# Altium footprint library WE-CMDC.PcbLib: 4 footprints
Each footprint in its own frame and in the unit in brackets; x right, y up, seen from the top. Pads: shape width x height; smd on the part's side, far side on the other; paste and mask are expansions set on the pad; w line width, h text height; cw(c..) or ccw(c..) is an arc to the next point about the centre after c.
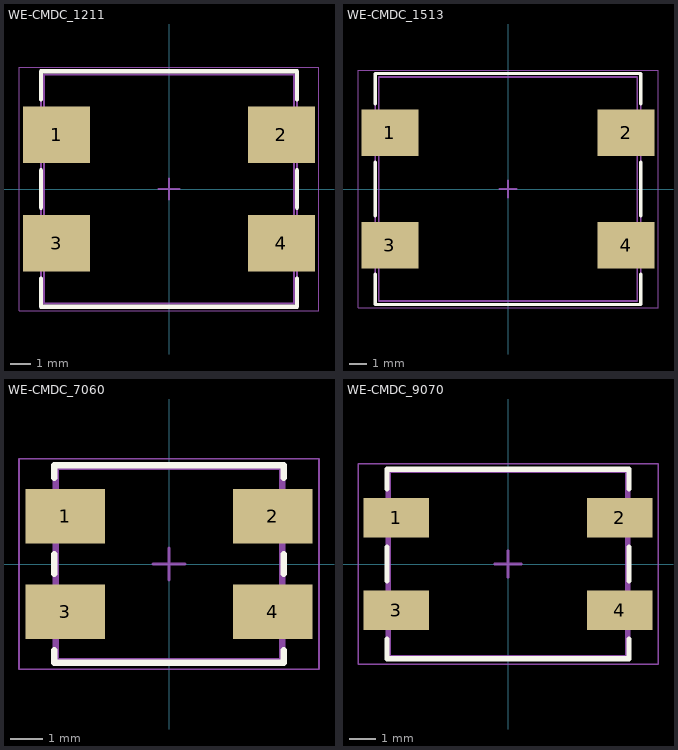
[diagram p0: the footprints below, top view; thin cyan lines are the x and y axes]

## WE-CMDC_1211 [mm] "Common Mode Data  Line Filter, size 1211, body 12 x 11 mm"
height 6
pads (4):
  rect 3.2x2.7 smd: 1(-5.4,2.6) 2(5.4,2.6) 3(-5.4,-2.6) 4(5.4,-2.6)
Top Overlay:
  lines w0.2: -6.15,-4.3 -6.15,-5.65 6.15,-5.65 6.15,-4.3 ; -6.15,-0.9 -6.15,0.9 ; -6.15,4.3 -6.15,5.65 6.15,5.65 6.15,4.3 ; 6.15,-0.9 6.15,0.9
Top Assembly:
  lines w0.1: -6.15,-5.65 6.15,-5.65 6.15,5.65 -6.15,5.65 -6.15,-5.65
Top Designator:
  text ".Designator" at -3.647,-0.357 h1
Top 3D Body:
  lines w0.1: -6,-5.5 -6,5.5 6,5.5 6,-5.5 -6,-5.5
Top Courtyard:
  lines w0.05: -7.2,-5.85 -7.2,5.85 7.2,5.85 7.2,-5.85 -7.2,-5.85
Top Component Center:
  lines w0.1: -0.5,0 0.5,0 ; 0,-0.5 0,0.5
3D body "744237xxx.stp": height 4.95, standoff 0.05, extent -6.15,-5.5 6.15,5.5

## WE-CMDC_1513 [mm] "Common Mode Data  Line Filter, size 1513, body 15.00 x 13.00 mm"
height 6
pads (4):
  rect 3.3x2.7 smd: 1(-6.85,3.25) 2(6.85,3.25) 3(-6.85,-3.25) 4(6.85,-3.25)
Top Overlay:
  lines w0.2: -7.7,-4.95 -7.7,-6.7 7.7,-6.7 7.7,-4.95 ; -7.7,-1.55 -7.7,1.55 ; -7.7,4.95 -7.7,6.7 7.7,6.7 7.7,4.95 ; 7.7,-1.55 7.7,1.55
Top Assembly:
  lines w0.1: -7.7,-6.7 7.7,-6.7 7.7,6.7 -7.7,6.7 -7.7,-6.7
Top Designator:
  text ".Designator" at -3.647,-0.357 h1
Top 3D Body:
  lines w0.1: -7.5,-6.5 7.5,-6.5 7.5,6.5 -7.5,6.5 -7.5,-6.5
Top Courtyard:
  lines w0.05: -8.7,-6.9 8.7,-6.9 8.7,6.9 -8.7,6.9 -8.7,-6.9
Top Component Center:
  lines w0.1: -0.5,0 0.5,0 ; 0,-0.5 0,0.5
3D body "1513.stp": height 6.05, standoff 0.05, extent -7.7,-6.5 7.7,6.5

## WE-CMDC_7060 [mm] "Common Mode Data  Line Filter, size 7060, body 7.00 x 6.00 mm"
height 3.5
pads (4):
  rect 2.5x1.7 smd: 1(-3.25,1.5) 2(3.25,1.5) 3(-3.25,-1.5) 4(3.25,-1.5)
Top Overlay:
  lines w0.2: -3.6,-2.7 -3.6,-3.1 3.6,-3.1 3.6,-2.7 ; -3.6,-0.3 -3.6,0.3 ; -3.6,2.7 -3.6,3.1 3.6,3.1 3.6,2.7 ; 3.6,-0.3 3.6,0.3
Top Assembly:
  lines w0.1: -3.6,-3.1 3.6,-3.1 3.6,3.1 -3.6,3.1 -3.6,-3.1
Top Designator:
  text ".Designator" at -3.647,-0.357 h1
Top 3D Body:
  lines w0.1: -3.5,-3 3.5,-3 3.5,3 -3.5,3 -3.5,-3
Top Courtyard:
  lines w0.05: -4.7,-3.3 4.7,-3.3 4.7,3.3 -4.7,3.3 -4.7,-3.3
Top Component Center:
  lines w0.1: -0.5,0 0.5,0 ; 0,-0.5 0,0.5
3D body "7060_.stp": height 3.08, standoff 0.04, extent -3.523,-2.983 3.524,2.983

## WE-CMDC_9070 [mm] "Common Mode Data  Line Filter, size 9070, body 9.00 x 7.00 mm"
height 4.5
pads (4):
  rect 2.5x1.5 smd: 1(-4.25,1.75) 2(4.25,1.75) 3(-4.25,-1.75) 4(4.25,-1.75)
Top Overlay:
  lines w0.2: -4.6,-2.85 -4.6,-3.6 4.6,-3.6 4.6,-2.85 ; -4.6,-0.65 -4.6,0.65 ; -4.6,2.85 -4.6,3.6 4.6,3.6 4.6,2.85 ; 4.6,-0.65 4.6,0.65
Top Assembly:
  lines w0.1: -4.6,-3.6 -4.6,3.6 4.6,3.6 4.6,-3.6 -4.6,-3.6
Top Designator:
  text ".Designator" at -3.647,-0.357 h1
Top 3D Body:
  lines w0.1: -4.5,-3.5 -4.5,3.5 4.5,3.5 4.5,-3.5 -4.5,-3.5
Top Courtyard:
  lines w0.05: -5.7,-3.8 -5.7,3.8 5.7,3.8 5.7,-3.8 -5.7,-3.8
Top Component Center:
  lines w0.1: -0.5,0 0.5,0 ; 0,-0.5 0,0.5
3D body "9070.stp": height 4.39, standoff 0.05, extent -4.5,-3.517 4.5,3.503